# EAGLE library part BQ5101X (library texas)
WIRELESS POWER SUPPLY RECEIVER Qi COMPLIANT
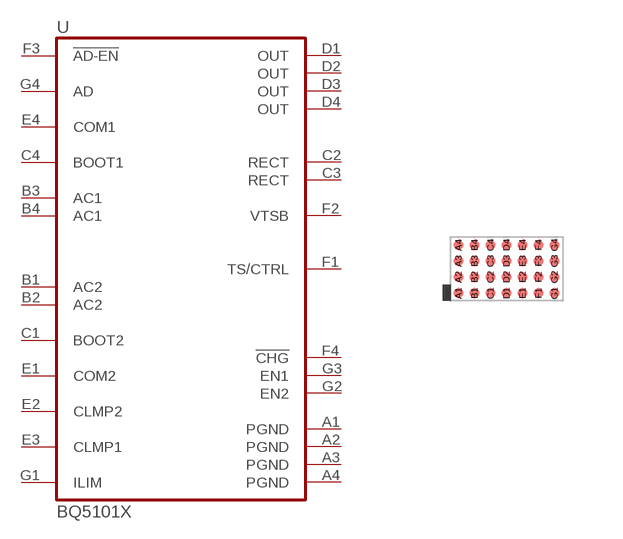
[diagram p63: symbol with the pads of XBGA-N28; footprint XBGA-N28]

Designator prefix U

## BQ5101X  [XBGA-N28]
A1  PGND  pwr
A2  PGND  pwr
A3  PGND  pwr
A4  PGND  pwr
B1  AC2  oc
B2  AC2  oc
B3  AC1  oc
B4  AC1  oc
C1  BOOT2  in
C2  RECT  in
C3  RECT  in
C4  BOOT1  in
D1  OUT  pas
D2  OUT  pas
D3  OUT  pas
D4  OUT  pas
E1  COM2  pas
E2  CLMP2  pas
E3  CLMP1  pas
E4  COM1  oc
F1  TS/CTRL  in
F2  VTSB  out
F3  !AD-EN!  in
F4  !CHG!  oc
G1  ILIM  pas
G2  EN2  in
G3  EN1  in
G4  AD  in

## Footprint XBGA-N28 (pad centres in mm)
DSBGA-28 YYF (R-XBGA-N28)
smd 0.25 x 0.25: A1 -1.2,-0.6; A2 -1.2,-0.2; A3 -1.2,0.2; A4 -1.2,0.6; B1 -0.8,-0.6; B2 -0.8,-0.2; B3 -0.8,0.2; B4 -0.8,0.6; C1 -0.4,-0.6; C2 -0.4,-0.2; C3 -0.4,0.2; C4 -0.4,0.6; D1 0,-0.6; D2 0,-0.2; D3 0,0.2; D4 0,0.6; E1 0.4,-0.6; E2 0.4,-0.2; E3 0.4,0.2; E4 0.4,0.6; F1 0.8,-0.6; F2 0.8,-0.2; F3 0.8,0.2; F4 0.8,0.6; G1 1.2,-0.6; G2 1.2,-0.2; G3 1.2,0.2; G4 1.2,0.6